# Altium schematic symbol library Inductance.SchLib: 2 symbols
Pins are listed as number, name and electrical type; pins without a type are passive.

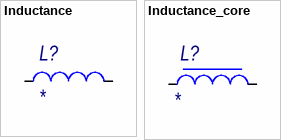
[diagram p0: symbols Inductance to Inductance_core]

## Inductance
designator L?
Value: *
footprint CDRH74
footprint B82464 (Epcos)
footprint L0603
pins: 1, 2

## Inductance_core
designator L?
Value: *
footprint CDRH74
pins: 1, 2